# EAGLE library part HDMI-019S (library con-hdmi)
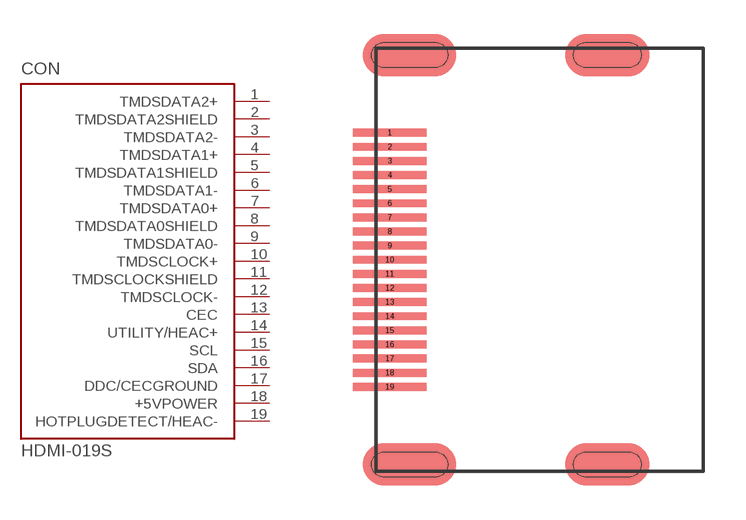
[diagram p0: symbol with the pads of HDMI-019S; footprint HDMI-019S]

Designator prefix CON

## HDMI-019S  [HDMI-019S]
1  TMDSDATA2+
2  TMDSDATA2SHIELD
3  TMDSDATA2-
4  TMDSDATA1+
5  TMDSDATA1SHIELD
6  TMDSDATA1-
7  TMDSDATA0+
8  TMDSDATA0SHIELD
9  TMDSDATA0-
10  TMDSCLOCK+
11  TMDSCLOCKSHIELD
12  TMDSCLOCK-
13  CEC
14  UTILITY/HEAC+
15  SCL
16  SDA
17  DDC/CECGROUND
18  +5VPOWER
19  HOTPLUGDETECT/HEAC-

## Footprint HDMI-019S (pad centres in mm)
smd 2.6 x 0.28: 1 -7.59,4.5; 2 -7.59,4; 3 -7.59,3.5; 4 -7.59,3; 5 -7.59,2.5; 6 -7.59,2; 7 -7.59,1.5; 8 -7.59,1; 9 -7.59,0.5; 10 -7.59,0; 11 -7.59,-0.5; 12 -7.59,-1; 13 -7.59,-1.5; 14 -7.59,-2; 15 -7.59,-2.5; 16 -7.59,-3; 17 -7.59,-3.5; 18 -7.59,-4; 19 -7.59,-4.5